# EAGLE library part PCF2123 (library PCF2123TS)
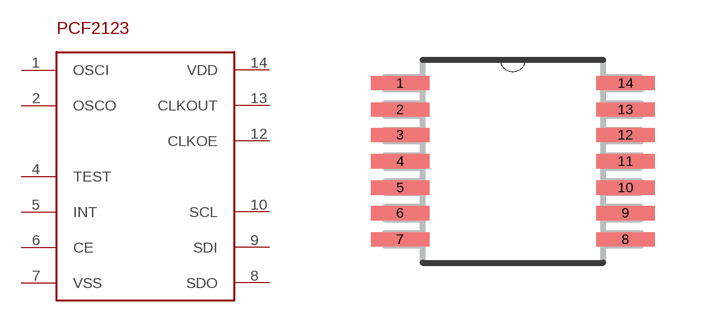
[diagram p0: symbol with the pads of TSSOP14; footprint TSSOP14]

Designator prefix -

## PCF2123  [TSSOP14]
1  OSCI
2  OSCO
4  TEST
5  INT
6  CE
7  VSS
8  SDO
9  SDI
10  SCL
12  CLKOE
13  CLKOUT
14  VDD

## Footprint TSSOP14 (pad centres in mm)
smd 1.473 x 0.356: 1 -2.819,1.956; 2 -2.819,1.295; 3 -2.819,0.66; 4 -2.819,0; 5 -2.819,-0.66; 6 -2.819,-1.295; 7 -2.819,-1.956; 8 2.819,-1.956; 9 2.819,-1.295; 10 2.819,-0.66; 11 2.819,0; 12 2.819,0.66; 13 2.819,1.295; 14 2.819,1.956